# Altium footprint library MOLEX_2012670005.PcbLib: 1 footprints
Each footprint in its own frame and in the unit in brackets; x right, y up, seen from the top. Pads: shape width x height; smd on the part's side, far side on the other; paste and mask are expansions set on the pad; w line width, h text height; cw(c..) or ccw(c..) is an arc to the next point about the centre after c.
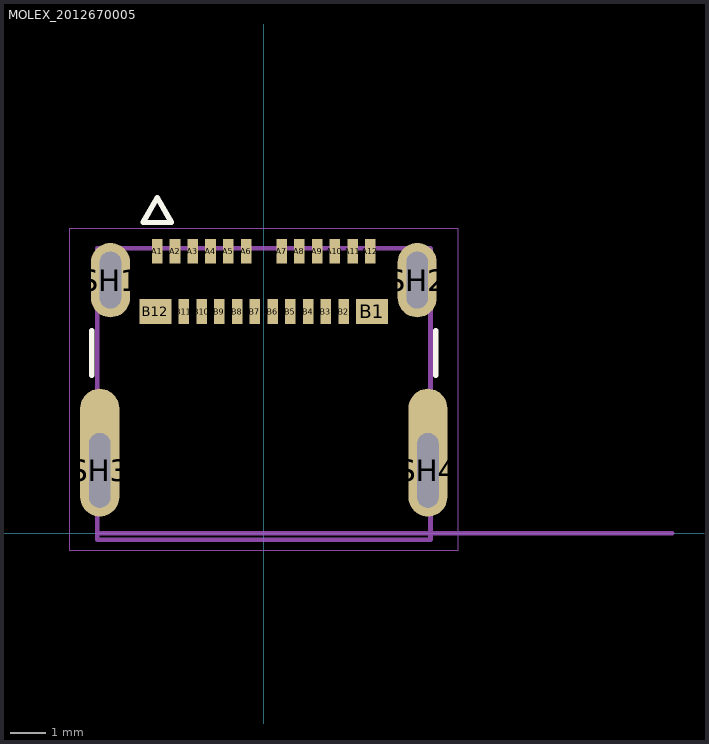
[diagram p0: the footprint, top view; thin cyan lines are the x and y axes]

## MOLEX_2012670005 [mm]
height 3.86
pads (28):
  rect 0.298x0.7 smd mask+0.064: A1(-3,7.94) A2(-2.5,7.94) A3(-2,7.94) A4(-1.5,7.94) A5(-1,7.94) A6(-0.5,7.94) A7(0.5,7.94) A8(1,7.94) A9(1.5,7.94) A10(2,7.94) A11(2.5,7.94) A12(3,7.94) B2(2.25,6.24) B3(1.75,6.24) B4(1.25,6.24) B5(0.75,6.24) B6(0.25,6.24) B7(-0.25,6.24) B8(-0.75,6.24) B9(-1.25,6.24) B10(-1.75,6.24) B11(-2.25,6.24)
  rect 0.898x0.7 smd mask+0: B1(3.05,6.24) B12(-3.05,6.24)
  oval 1.1x2.1 hole 0.6 slot 1.6 at 90 deg mask+0.064: SH1(-4.32,7.13) SH2(4.32,7.13)
  oval 1.1x3.6 hole 0.6 slot 2.1 at 90 deg copper offset 0,0.5 mask+0.064: SH3(-4.62,1.77) SH4(4.62,1.77)
Top Overlay:
  lines w0.15: -4.845,4.45 -4.845,5.7 ; 4.845,4.45 4.845,5.7 ; -3.4,8.75 -3,9.45 -2.6,8.75 -3.4,8.75
Top Solder:
  region: 3.562,5.826 2.538,5.826 2.538,6.653 3.562,6.653
  region: -2.538,5.826 -3.562,5.826 -3.562,6.653 -2.538,6.653
Mechanical 2:
  text "'.Designator'" at -1.016,9.144 h0.7
Mechanical 12:
  text "PTH Slot 1.6 +/- 0.05 X 0.6 +/- 0.05" at -5.08,12.227 h0.5
  text "PTH Slot 2.1 +/- 0.05 X 0.6 +/- 0.05" at -5.08,11.592 h0.5
Mechanical 13:
  lines w0.13: 11.5,0 -4.695,0 ; -4.695,0 -4.695,8.03 4.695,8.03 4.695,-0.18 -4.695,-0.18 -4.695,0 ; -3.4,8.75 -3,9.45 -2.6,8.75 -3.4,8.75
  text "PCB Edge" at 5.5,0.27 h1
Mechanical 15:
  lines w0.01: -5.47,-0.48 -5.47,8.59 5.47,8.59 5.47,-0.48 -5.47,-0.48
3D body "2012670005.stp": height 3.72, standoff -2.29, extent -4.691,-0.213 4.699,8.087